# EAGLE library part LCD (library library)
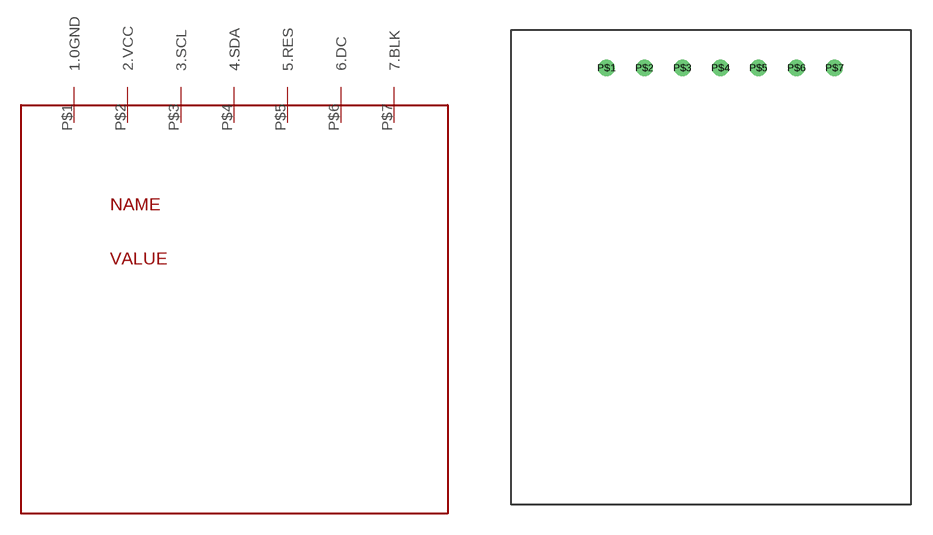
[diagram p9: symbol with the pads of LCD; footprint LCD]

Designator prefix -

## LCD  [LCD]
P$1  1.0GND
P$2  2.VCC
P$3  3.SCL
P$4  4.SDA
P$5  5.RES
P$6  6.DC
P$7  7.BLK

## Footprint LCD (pad centres in mm)
drill 0.6: P$1 -7.62,2.54; P$2 -5.08,2.54; P$3 -2.54,2.54; P$4 0,2.54; P$5 2.54,2.54; P$6 5.08,2.54; P$7 7.62,2.54